# Altium footprint library linear.PCBLIB: 119 footprints (part 5 of 8)
Each footprint in its own frame and in the unit in brackets; x right, y up, seen from the top. Pads: shape width x height; smd on the part's side, far side on the other; paste and mask are expansions set on the pad; w line width, h text height; cw(c..) or ccw(c..) is an arc to the next point about the centre after c.
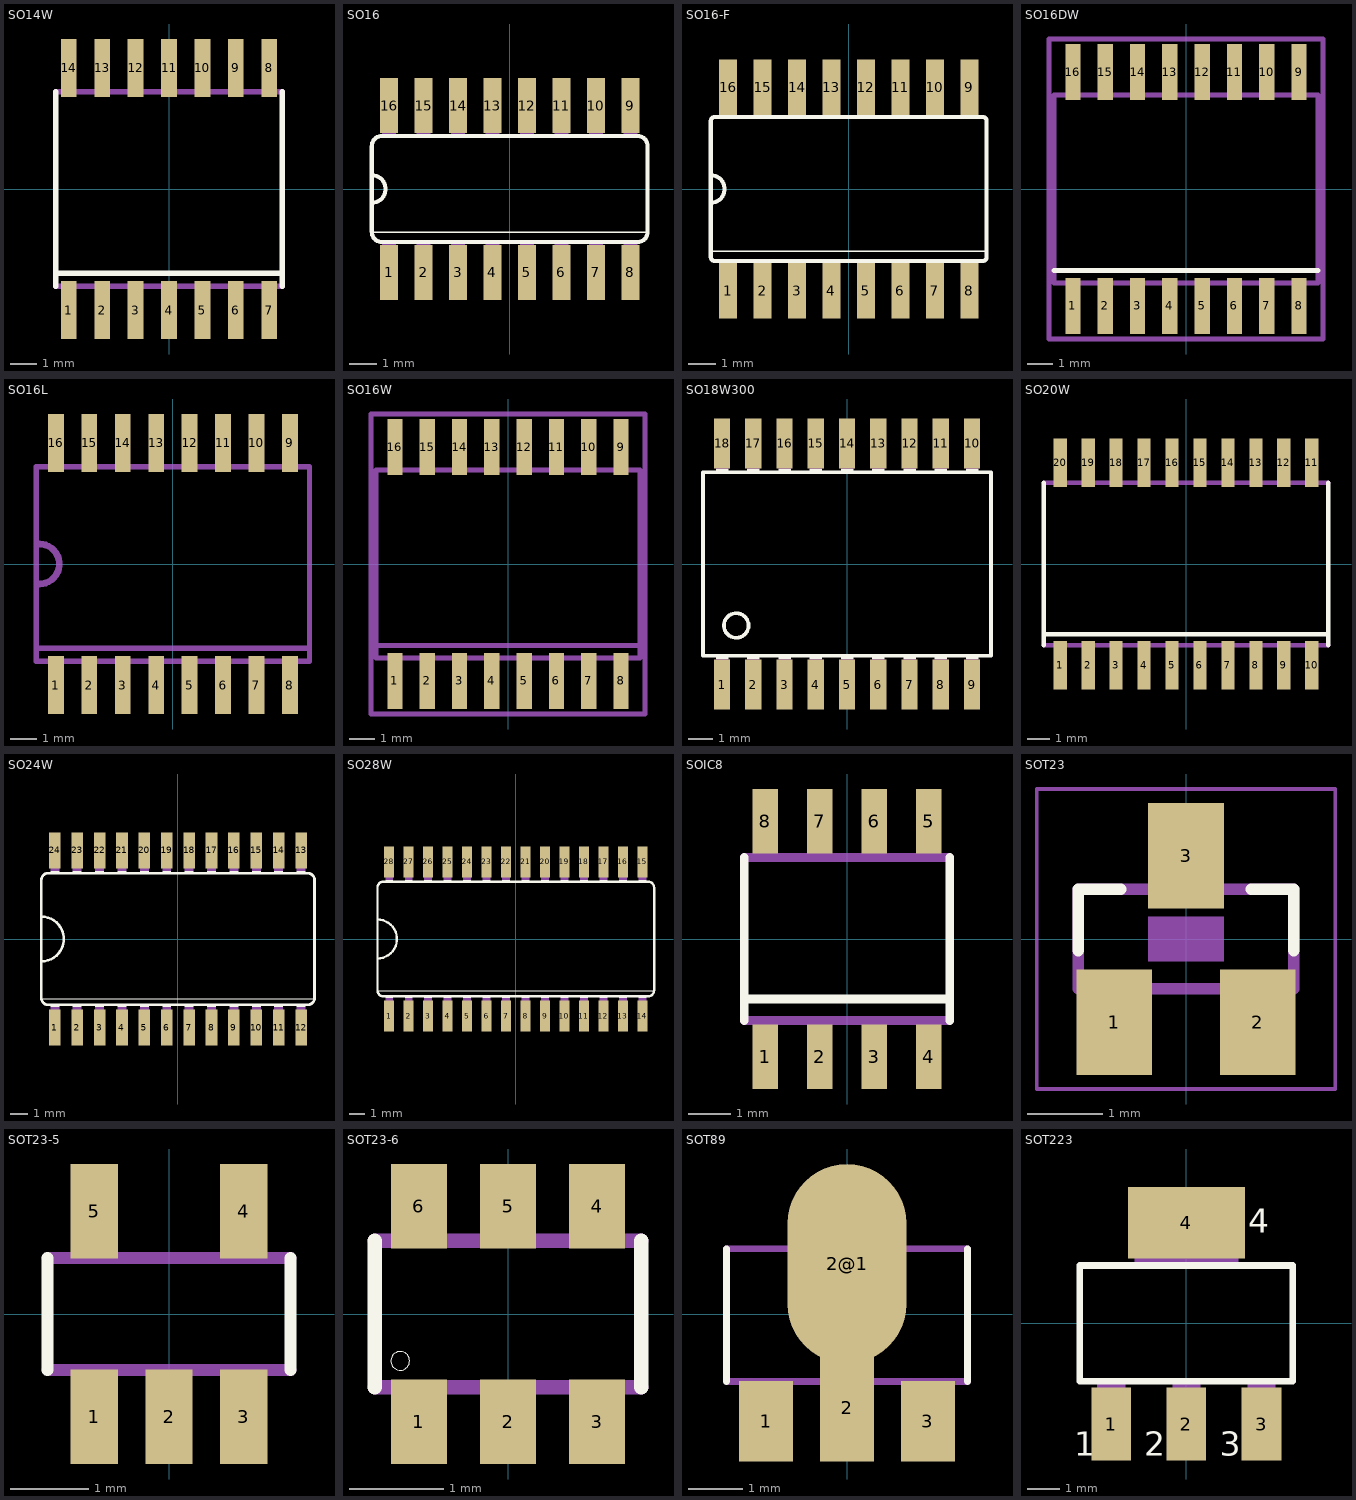
[diagram p4: the footprints below, top view; thin cyan lines are the x and y axes]

## SO14W [mil]
pads (14):
  rect 23.62x86.61 smd: 1(-150,-181.1) 2(-100,-181.1) 3(-50,-181.1) 4(0,-181.1) 5(50,-181.1) 6(100,-181.1) 7(150,-181.1) 8(150,181.1) 9(100,181.1) 10(50,181.1) 11(0,181.1) 12(-50,181.1) 13(-100,181.1) 14(-150,181.1)
Top Overlay:
  lines w8: -169.49,-145.67 -169.49,-125.98 ; -169.49,145.67 -169.49,-125.98 ; 169.49,-145.67 169.49,-125.98 ; 169.49,145.67 169.49,-125.98 ; -169.49,-125.98 169.49,-125.98
Mechanical 16:
  rectangle: -159.65,-209.45 -140.35,-149.61
  rectangle: -109.65,-209.45 -90.35,-149.61
  rectangle: -59.65,-209.45 -40.35,-149.61
  rectangle: -9.65,-209.45 9.65,-149.61
  rectangle: 40.35,-209.45 59.65,-149.61
  rectangle: 90.35,-209.45 109.65,-149.61
  rectangle: 140.35,-209.45 159.65,-149.61
  rectangle: 140.35,149.61 159.65,209.45
  rectangle: 90.35,149.61 109.65,209.45
  rectangle: 40.35,149.61 59.65,209.45
  rectangle: -9.65,149.61 9.65,209.45
  rectangle: -59.65,149.61 -40.35,209.45
  rectangle: -109.65,149.61 -90.35,209.45
  rectangle: -159.65,149.61 -140.35,209.45
  lines w8: -169.49,-145.67 169.49,-145.67 ; -169.49,145.67 169.49,145.67

## SO16 [mil]
pads (16):
  rect 26x80 smd: 1(-175,-121) 2(-125,-121) 3(-75,-121) 4(-25,-121) 5(25,-121) 6(75,-121) 7(125,-121) 8(175,-121) 9(175,121) 10(125,121) 11(75,121) 12(25,121) 13(-25,121) 14(-75,121) 15(-125,121) 16(-175,121)
Top Overlay:
  lines w2: -200,-63 200,-63
  lines w6: -200,-20 -200,20 ; -200,-20 -200,-62 ccw(c-185,-62) -185,-77 185,-77 ccw(c185,-62) 200,-62 200,62 ccw(c185,62) 185,77 -185,77 ccw(c-185,62) -200,62 -200,20 ; -200,-20 ccw(c-200,0) -200,20
Mechanical 16:
  rectangle: -35,77 -15,122
  rectangle: -185,-122 -165,-77
  rectangle: -135,-122 -115,-77
  rectangle: -85,-121 -65,-76
  rectangle: -35,-122 -15,-77
  rectangle: -85,77 -65,122
  rectangle: -135,77 -115,122
  rectangle: -185,77 -165,122
  rectangle: 15,-122 35,-77
  rectangle: 65,-122 85,-77
  rectangle: 115,-122 135,-77
  rectangle: 165,-122 185,-77
  rectangle: 15,77 35,122
  rectangle: 65,77 85,122
  rectangle: 115,77 135,122
  rectangle: 165,77 185,122

## SO16-F [mil]
pads (16):
  rect 26x80 smd: 1(-175,-147.57) 2(-125,-147.57) 3(-75,-147.57) 4(-25,-147.57) 5(25,-147.57) 6(75,-147.57) 7(125,-147.57) 8(175,-147.57) 9(175,147.57) 10(125,147.57) 11(75,147.57) 12(25,147.57) 13(-25,147.57) 14(-75,147.57) 15(-125,147.57) 16(-175,147.57)
Top Overlay:
  lines w2: -200,-90.56 200,-90.56
  lines w6: -200,-20 -200,20 ; -200,-20 -200,-90.56 -200,-98.42 ccw(c-193.86,-98.42) -193.86,-104.56 193.86,-104.56 ccw(c193.86,-98.42) 200,-98.42 200,-90.56 200,98.42 ccw(c193.86,98.42) 193.86,104.56 -193.86,104.56 ccw(c-193.86,98.42) -200,98.42 -200,20 ; -200,-20 ccw(c-200,0) -200,20
Mechanical 16:
  rectangle: -35,107.28 -15,161.37
  rectangle: -185,-161.37 -165,-107.28
  rectangle: -135,-161.37 -115,-107.28
  rectangle: -85,-160.37 -65,-107.28
  rectangle: -35,-161.37 -15,-107.28
  rectangle: -85,107.28 -65,161.37
  rectangle: -135,107.28 -115,161.37
  rectangle: -185,107.28 -165,161.37
  rectangle: 15,-161.37 35,-107.28
  rectangle: 65,-161.37 85,-107.28
  rectangle: 115,-161.37 135,-107.28
  rectangle: 165,-161.37 185,-107.28
  rectangle: 15,107.28 35,161.37
  rectangle: 65,107.28 85,161.37
  rectangle: 115,107.28 135,161.37
  rectangle: 165,107.28 185,161.37

## SO16DW [mil]
pads (16):
  rect 23.62x86.61 smd: 1(-175,-181.1) 2(-125,-181.1) 3(-75,-181.1) 4(-25,-181.1) 5(25,-181.1) 6(75,-181.1) 7(125,-181.1) 8(175,-181.1) 9(175,181.1) 10(125,181.1) 11(75,181.1) 12(25,181.1) 13(-25,181.1) 14(-75,181.1) 15(-125,181.1) 16(-175,181.1)
Top Overlay:
  lines w8: -204.33,-125.98 204.33,-125.98
Mechanical 16:
  rectangle: -184.65,-209.45 -165.35,-149.61
  rectangle: -134.65,-209.45 -115.35,-149.61
  rectangle: -84.65,-209.45 -65.35,-149.61
  rectangle: -34.65,-209.45 -15.35,-149.61
  rectangle: 15.35,-209.45 34.65,-149.61
  rectangle: 65.35,-209.45 84.65,-149.61
  rectangle: 115.35,-209.45 134.65,-149.61
  rectangle: 165.35,-209.45 184.65,-149.61
  rectangle: 165.35,149.61 184.65,209.45
  rectangle: 115.35,149.61 134.65,209.45
  rectangle: 65.35,149.61 84.65,209.45
  rectangle: 15.35,149.61 34.65,209.45
  rectangle: -34.65,149.61 -15.35,209.45
  rectangle: -84.65,149.61 -65.35,209.45
  rectangle: -134.65,149.61 -115.35,209.45
  rectangle: -184.65,149.61 -165.35,209.45
  lines w8: -204.33,-145.67 204.33,-145.67 204.33,145.67 -204.33,145.67 -204.33,-145.67
Mechanical 27:
  lines w7.87: -212.4,-232.28 212.4,-232.28 212.4,232.28 -212.4,232.28 -212.4,-232.28

## SO16L [mil]
pads (16):
  rect 23.62x86.61 smd: 1(-175,-181.1) 2(-125,-181.1) 3(-75,-181.1) 4(-25,-181.1) 5(25,-181.1) 6(75,-181.1) 7(125,-181.1) 8(175,-181.1) 9(175,181.1) 10(125,181.1) 11(75,181.1) 12(25,181.1) 13(-25,181.1) 14(-75,181.1) 15(-125,181.1) 16(-175,181.1)
Mechanical 13:
  lines w10: -200,-30 ccw(c-200,0) -200,30
Mechanical 16:
  rectangle: -184.65,-209.45 -165.35,-149.61
  rectangle: -134.65,-209.45 -115.35,-149.61
  rectangle: -84.65,-209.45 -65.35,-149.61
  rectangle: -34.65,-209.45 -15.35,-149.61
  rectangle: 15.35,-209.45 34.65,-149.61
  rectangle: 65.35,-209.45 84.65,-149.61
  rectangle: 115.35,-209.45 134.65,-149.61
  rectangle: 165.35,-209.45 184.65,-149.61
  rectangle: 165.35,149.61 184.65,209.45
  rectangle: 115.35,149.61 134.65,209.45
  rectangle: 65.35,149.61 84.65,209.45
  rectangle: 15.35,149.61 34.65,209.45
  rectangle: -34.65,149.61 -15.35,209.45
  rectangle: -84.65,149.61 -65.35,209.45
  rectangle: -134.65,149.61 -115.35,209.45
  rectangle: -184.65,149.61 -165.35,209.45
  lines w8: -204.33,-125.98 -204.33,-145.67 204.33,-145.67 204.33,-125.98 ; -204.33,-125.98 -204.33,145.67 204.33,145.67 204.33,-125.98 ; -204.33,-125.98 204.33,-125.98

## SO16W [mil]
pads (16):
  rect 23.62x86.61 smd: 1(-175,-181.1) 2(-125,-181.1) 3(-75,-181.1) 4(-25,-181.1) 5(25,-181.1) 6(75,-181.1) 7(125,-181.1) 8(175,-181.1) 9(175,181.1) 10(125,181.1) 11(75,181.1) 12(25,181.1) 13(-25,181.1) 14(-75,181.1) 15(-125,181.1) 16(-175,181.1)
Mechanical 16:
  rectangle: -184.65,-209.45 -165.35,-149.61
  rectangle: -134.65,-209.45 -115.35,-149.61
  rectangle: -84.65,-209.45 -65.35,-149.61
  rectangle: -34.65,-209.45 -15.35,-149.61
  rectangle: 15.35,-209.45 34.65,-149.61
  rectangle: 65.35,-209.45 84.65,-149.61
  rectangle: 115.35,-209.45 134.65,-149.61
  rectangle: 165.35,-209.45 184.65,-149.61
  rectangle: 165.35,149.61 184.65,209.45
  rectangle: 115.35,149.61 134.65,209.45
  rectangle: 65.35,149.61 84.65,209.45
  rectangle: 15.35,149.61 34.65,209.45
  rectangle: -34.65,149.61 -15.35,209.45
  rectangle: -84.65,149.61 -65.35,209.45
  rectangle: -134.65,149.61 -115.35,209.45
  rectangle: -184.65,149.61 -165.35,209.45
  lines w8: -204.33,-125.98 -204.33,-145.67 204.33,-145.67 204.33,-125.98 ; -204.33,-125.98 -204.33,145.67 204.33,145.67 204.33,-125.98 ; -204.33,-125.98 204.33,-125.98
Mechanical 27:
  lines w7.87: -212.4,-232.28 212.4,-232.28 212.4,232.28 -212.4,232.28 -212.4,-232.28

## SO18W300 [mil]
pads (18):
  rect 26x80 smd: 1(-200,-193) 2(-150,-193) 3(-100,-193) 4(-50,-193) 5(0,-193) 6(50,-193) 7(100,-193) 8(150,-193) 9(200,-193) 10(200,193) 11(150,193) 12(100,193) 13(50,193) 14(0,193) 15(-50,193) 16(-100,193) 17(-150,193) 18(-200,193)
Top Overlay:
  circle w6: c-177.17,-98.43 r19.69
  rectangle: -210,-152 -190,-147
  rectangle: -160,-152 -140,-147
  rectangle: -110,-152 -90,-147
  rectangle: -60,-152 -40,-147
  rectangle: -10,-152 10,-147
  rectangle: 40,-152 60,-147
  rectangle: 90,-152 110,-147
  rectangle: 140,-152 160,-147
  rectangle: -210,147 -190,152
  rectangle: -160,147 -140,152
  rectangle: -110,147 -90,152
  rectangle: -60,147 -40,152
  rectangle: -10,147 10,152
  rectangle: 40,147 60,152
  rectangle: 90,147 110,152
  rectangle: 140,147 160,152
  rectangle: 190,147 210,152
  rectangle: 190,-152 210,-147
  lines w6: -230.32,-146.65 230.32,-146.65 230.32,146.65 -230.32,146.65 -230.32,-146.65
Mechanical 16:
  rectangle: -210,-210 -190,-152
  rectangle: -160,-210 -140,-152
  rectangle: -110,-210 -90,-152
  rectangle: -60,-210 -40,-152
  rectangle: -10,-210 10,-152
  rectangle: 40,-210 60,-152
  rectangle: 90,-210 110,-152
  rectangle: 140,-210 160,-152
  rectangle: -210,152 -190,210
  rectangle: -160,152 -140,210
  rectangle: -110,152 -90,210
  rectangle: -60,152 -40,210
  rectangle: -10,152 10,210
  rectangle: 40,152 60,210
  rectangle: 90,152 110,210
  rectangle: 140,152 160,210
  rectangle: 190,152 210,210
  rectangle: 190,-210 210,-152

## SO20W [mil]
pads (20):
  rect 23.62x86.61 smd: 1(-225,-181.1) 2(-175,-181.1) 3(-125,-181.1) 4(-75,-181.1) 5(-25,-181.1) 6(25,-181.1) 7(75,-181.1) 8(125,-181.1) 9(175,-181.1) 10(225,-181.1) 11(225,181.1) 12(175,181.1) 13(125,181.1) 14(75,181.1) 15(25,181.1) 16(-25,181.1) 17(-75,181.1) 18(-125,181.1) 19(-175,181.1) 20(-225,181.1)
Top Overlay:
  lines w8: -254.33,-145.67 -254.33,-125.98 ; -254.33,145.67 -254.33,-125.98 ; 254.33,-145.67 254.33,-125.98 ; 254.33,145.67 254.33,-125.98 ; -254.33,-125.98 254.33,-125.98
Mechanical 16:
  rectangle: -234.65,-209.45 -215.35,-149.61
  rectangle: -184.65,-209.45 -165.35,-149.61
  rectangle: -134.65,-209.45 -115.35,-149.61
  rectangle: -84.65,-209.45 -65.35,-149.61
  rectangle: -34.65,-209.45 -15.35,-149.61
  rectangle: 15.35,-209.45 34.65,-149.61
  rectangle: 65.35,-209.45 84.65,-149.61
  rectangle: 115.35,-209.45 134.65,-149.61
  rectangle: 165.35,-209.45 184.65,-149.61
  rectangle: 215.35,-209.45 234.65,-149.61
  rectangle: 215.35,149.61 234.65,209.45
  rectangle: 165.35,149.61 184.65,209.45
  rectangle: 115.35,149.61 134.65,209.45
  rectangle: 65.35,149.61 84.65,209.45
  rectangle: 15.35,149.61 34.65,209.45
  rectangle: -34.65,149.61 -15.35,209.45
  rectangle: -84.65,149.61 -65.35,209.45
  rectangle: -134.65,149.61 -115.35,209.45
  rectangle: -184.65,149.61 -165.35,209.45
  rectangle: -234.65,149.61 -215.35,209.45
  lines w8: -254.33,-145.67 254.33,-145.67 ; -254.33,145.67 254.33,145.67

## SO24W [mil]
pads (24):
  rect 26x80 smd: 1(-275,-198) 2(-225,-198) 3(-175,-198) 4(-125,-198) 5(-75,-198) 6(-25,-198) 7(25,-198) 8(75,-198) 9(125,-198) 10(175,-198) 11(225,-198) 12(275,-198) 13(275,198) 14(225,198) 15(175,198) 16(125,198) 17(75,198) 18(25,198) 19(-25,198) 20(-75,198) 21(-125,198) 22(-175,198) 23(-225,198) 24(-275,198)
Top Overlay:
  rectangle: -285,-152 -265,-147
  rectangle: -235,-152 -215,-147
  rectangle: -185,-152 -165,-147
  rectangle: -135,-152 -115,-147
  rectangle: -85,-152 -65,-147
  rectangle: -35,-152 -15,-147
  rectangle: 15,-152 35,-147
  rectangle: 65,-152 85,-147
  rectangle: -285,147 -265,152
  rectangle: -235,147 -215,152
  rectangle: -185,147 -165,152
  rectangle: -135,147 -115,152
  rectangle: -85,147 -65,152
  rectangle: -35,147 -15,152
  rectangle: 15,147 35,152
  rectangle: 65,147 85,152
  rectangle: 115,147 135,152
  rectangle: 165,147 185,152
  rectangle: 215,147 235,152
  rectangle: 265,147 285,152
  rectangle: 115,-152 135,-147
  rectangle: 165,-152 185,-147
  rectangle: 215,-152 235,-147
  rectangle: 265,-152 285,-147
  lines w2: -305,-133 305,-133
  lines w6: -305,-50 -305,50 ; -305,-50 -305,-132 ccw(c-290,-132) -290,-147 290,-147 ccw(c290,-132) 305,-132 305,132 ccw(c290,132) 290,147 -290,147 ccw(c-290,132) -305,132 -305,50 ; -305,-50 ccw(c-305,0) -305,50
Mechanical 16:
  rectangle: -285,-210 -265,-152
  rectangle: -235,-210 -215,-152
  rectangle: -185,-210 -165,-152
  rectangle: -135,-210 -115,-152
  rectangle: -85,-210 -65,-152
  rectangle: -35,-210 -15,-152
  rectangle: 15,-210 35,-152
  rectangle: 65,-210 85,-152
  rectangle: -285,152 -265,210
  rectangle: -235,152 -215,210
  rectangle: -185,152 -165,210
  rectangle: -135,152 -115,210
  rectangle: -85,152 -65,210
  rectangle: -35,152 -15,210
  rectangle: 15,152 35,210
  rectangle: 65,152 85,210
  rectangle: 115,152 135,210
  rectangle: 165,152 185,210
  rectangle: 215,152 235,210
  rectangle: 265,152 285,210
  rectangle: 115,-210 135,-152
  rectangle: 165,-210 185,-152
  rectangle: 215,-210 235,-152
  rectangle: 265,-210 285,-152

## SO28W [mil]
pads (28):
  rect 26x80 smd: 1(-325,-198) 2(-275,-198) 3(-225,-198) 4(-175,-198) 5(-125,-198) 6(-75,-198) 7(-25,-198) 8(25,-198) 9(75,-198) 10(125,-198) 11(175,-198) 12(225,-198) 13(275,-198) 14(325,-198) 15(325,198) 16(275,198) 17(225,198) 18(175,198) 19(125,198) 20(75,198) 21(25,198) 22(-25,198) 23(-75,198) 24(-125,198) 25(-175,198) 26(-225,198) 27(-275,198) 28(-325,198)
Top Overlay:
  rectangle: -335,-152 -315,-147
  rectangle: -285,-152 -265,-147
  rectangle: -235,-152 -215,-147
  rectangle: -185,-152 -165,-147
  rectangle: -135,-152 -115,-147
  rectangle: -85,-152 -65,-147
  rectangle: -35,-152 -15,-147
  rectangle: 15,-152 35,-147
  rectangle: -335,147 -315,152
  rectangle: -285,147 -265,152
  rectangle: -235,147 -215,152
  rectangle: -185,147 -165,152
  rectangle: -135,147 -115,152
  rectangle: -85,147 -65,152
  rectangle: -35,147 -15,152
  rectangle: 15,147 35,152
  rectangle: 65,147 85,152
  rectangle: 115,147 135,152
  rectangle: 165,147 185,152
  rectangle: 215,147 235,152
  rectangle: 265,147 285,152
  rectangle: 315,147 335,152
  rectangle: 65,-152 85,-147
  rectangle: 115,-152 135,-147
  rectangle: 165,-152 185,-147
  rectangle: 215,-152 235,-147
  rectangle: 265,-152 285,-147
  rectangle: 315,-152 335,-147
  lines w2: -355,-133 355,-133
  lines w6: -355,-50 -355,50 ; -355,-50 -355,-132 ccw(c-340,-132) -340,-147 340,-147 ccw(c340,-132) 355,-132 355,132 ccw(c340,132) 340,147 -340,147 ccw(c-340,132) -355,132 -355,50 ; -355,-50 ccw(c-355,0) -355,50
Mechanical 16:
  rectangle: -335,-210 -315,-152
  rectangle: -285,-210 -265,-152
  rectangle: -235,-210 -215,-152
  rectangle: -185,-210 -165,-152
  rectangle: -135,-210 -115,-152
  rectangle: -85,-210 -65,-152
  rectangle: -35,-210 -15,-152
  rectangle: 15,-210 35,-152
  rectangle: -335,152 -315,210
  rectangle: -285,152 -265,210
  rectangle: -235,152 -215,210
  rectangle: -185,152 -165,210
  rectangle: -135,152 -115,210
  rectangle: -85,152 -65,210
  rectangle: -35,152 -15,210
  rectangle: 15,152 35,210
  rectangle: 65,-210 85,-152
  rectangle: 115,-210 135,-152
  rectangle: 165,-210 185,-152
  rectangle: 215,-210 235,-152
  rectangle: 265,-210 285,-152
  rectangle: 315,-210 335,-152
  rectangle: 65,152 85,210
  rectangle: 115,152 135,210
  rectangle: 165,152 185,210
  rectangle: 215,152 235,210
  rectangle: 265,152 285,210
  rectangle: 315,152 335,210

## SOIC8 [mil]
pads (8):
  rect 23.62x59.06 smd: 1(-75,-108.27) 2(-25,-108.27) 3(25,-108.27) 4(75,-108.27) 5(75,108.27) 6(25,108.27) 7(-25,108.27) 8(-75,108.27)
Top Overlay:
  lines w8: -94.49,-74.8 -94.49,-55.12 ; -94.49,74.8 -94.49,-55.12 ; 94.49,-74.8 94.49,-55.12 ; 94.49,74.8 94.49,-55.12 ; -94.49,-55.12 94.49,-55.12
Mechanical 16:
  rectangle: -84.65,-122.05 -65.35,-78.74
  rectangle: -34.65,-122.05 -15.35,-78.74
  rectangle: 15.35,-122.05 34.65,-78.74
  rectangle: 65.35,-122.05 84.65,-78.74
  rectangle: 65.35,78.74 84.65,122.05
  rectangle: 15.35,78.74 34.65,122.05
  rectangle: -34.65,78.74 -15.35,122.05
  rectangle: -84.65,78.74 -65.35,122.05
  lines w8: -94.49,-74.8 94.49,-74.8 ; -94.49,74.8 94.49,74.8

## SOT23 [mm]
pads (3):
  rect 1x1.4 smd: 1(-0.95,-1.1) 2(0.95,-1.1) 3(0,1.1)
Top Overlay:
  lines w0.152: -1.422,-0.152 -1.422,0.66 -0.864,0.66 ; 0.864,0.66 1.422,0.66 1.422,-0.152
Mechanical 6:
  rectangle: -0.5,-0.3 0.5,0.3
Mechanical 16:
  rectangle: -0.229,0.711 0.229,1.295
  rectangle: 0.711,-1.295 1.168,-0.711
  rectangle: -1.168,-1.295 -0.711,-0.711
  lines w0.152: -1.422,-0.66 1.422,-0.66 1.422,0.66 -1.422,0.66 -1.422,-0.66
Mechanical 27:
  lines w0.051: -1.973,-1.983 1.973,-1.983 1.973,1.983 -1.973,1.983 -1.973,-1.983

## SOT23-5 [mil]
pads (5):
  rect 23.62x47.24 smd: 1(-37.4,-51.42) 2(0,-51.42) 3(37.4,-51.42) 4(37.4,51.42) 5(-37.4,51.42)
Top Overlay:
  lines w6: -60.79,-28.03 -60.79,28.07 ; 60.79,-28.03 60.79,28.07
Mechanical 16:
  rectangle: -46.75,28.06 -28.05,60.78
  rectangle: 28.05,28.06 46.75,60.78
  rectangle: -46.75,-60.78 -28.05,-28.05
  rectangle: -9.35,-60.78 9.35,-28.05
  rectangle: 28.05,-60.78 46.75,-28.05
  lines w6: -60.79,-28.03 60.79,-28.03 ; -60.79,28.07 60.79,28.07

## SOT23-6 [mil]
pads (6):
  rect 23.62x35.43 smd: 1(-37.4,-45.28) 2(0,-45.28) 3(37.4,-45.28) 4(37.4,45.28) 5(0,45.28) 6(-37.4,45.28)
Top Overlay:
  circle w0: c-45.28,-19.69 r3.94
  lines w6: -56.02,-30.75 -56.02,30.75 ; 55.98,-30.75 55.98,30.75
Mechanical 16:
  rectangle: -47.24,-55.12 -27.56,-31.5
  rectangle: -9.84,-55.12 9.84,-31.5
  rectangle: 27.56,-55.12 47.24,-31.5
  rectangle: 27.56,31.5 47.24,55.12
  rectangle: -9.84,31.5 9.84,55.12
  rectangle: -47.24,31.5 -27.56,55.12
  lines w6: -56.02,-30.75 55.98,-30.75 ; -56.02,30.75 55.98,30.75

## SOT89 [mm]
pads (4):
  rect 1x1.5 smd: 1(-1.499,-1.981) 3(1.499,-1.981)
  rect 1x2 smd: 2(0,-1.727)
  rrect100% 2.2x3.7 smd: 2@1(0,0.94)
Top Overlay:
  lines w0.127: -2.235,-1.245 -2.235,1.219 ; 2.235,-1.245 2.235,1.219
Top Paste:
  rectangle: -0.4,-2.68 0.4,-1.28
  rectangle: 1.1,-2.68 1.9,-1.28
  rectangle: -1.9,-2.68 -1.1,-1.28
  rectangle: -0.9,0 0.9,2.2
Top Solder:
  rectangle: -2.025,-2.775 -0.975,-1.2
  rectangle: 0.975,-2.775 2.025,-1.2
  rectangle: -0.525,-2.775 0.525,-1.2
Mechanical 16:
  rectangle: -1.727,-2.108 -1.27,-1.27
  rectangle: 1.27,-2.108 1.727,-1.27
  rectangle: -0.279,-2.108 0.279,-1.27
  region: 0,0 0.254,0 0.254,0.254 0,0.254
  lines w0.127: -2.235,-1.245 2.235,-1.245 ; -2.235,1.219 2.235,1.219
  lines w0.2: -0.787,1.295 0.787,1.295 0.787,1.575 0.356,2.007 -0.356,2.007 -0.787,1.575 -0.787,1.295

## SOT223 [mil]
pads (4):
  rect 48x88 smd: 1(-91,-122) 2(0,-122) 3(91,-122)
  rect 141.73x86.61 smd: 4(0,122.01)
Top Overlay:
  lines w8: -129,-70 129,-70 129,70 -129,70 -129,-70
  text "3" at 40.19,-170 h49.6
  text "4" at 75,100 h49.6
  text "1" at -135.93,-170 h49.6
  text "2" at -50.81,-170.37 h49.6
Mechanical 16:
  rectangle: -63,71 63,144
  rectangle: -17,-144 17,-71
  rectangle: -108,-144 -74,-71
  rectangle: 74,-144 108,-71
  rectangle: -63,71 63,144
  rectangle: -17,-144 17,-71
  rectangle: -108,-144 -74,-71
  rectangle: 74,-144 108,-71